# Altium integrated library STMicroelectronics Power Management DC-DC Conversion.IntLib: 186 symbols (part 1 of 4)
Pins are listed as number, name and electrical type; pins without a type are passive.

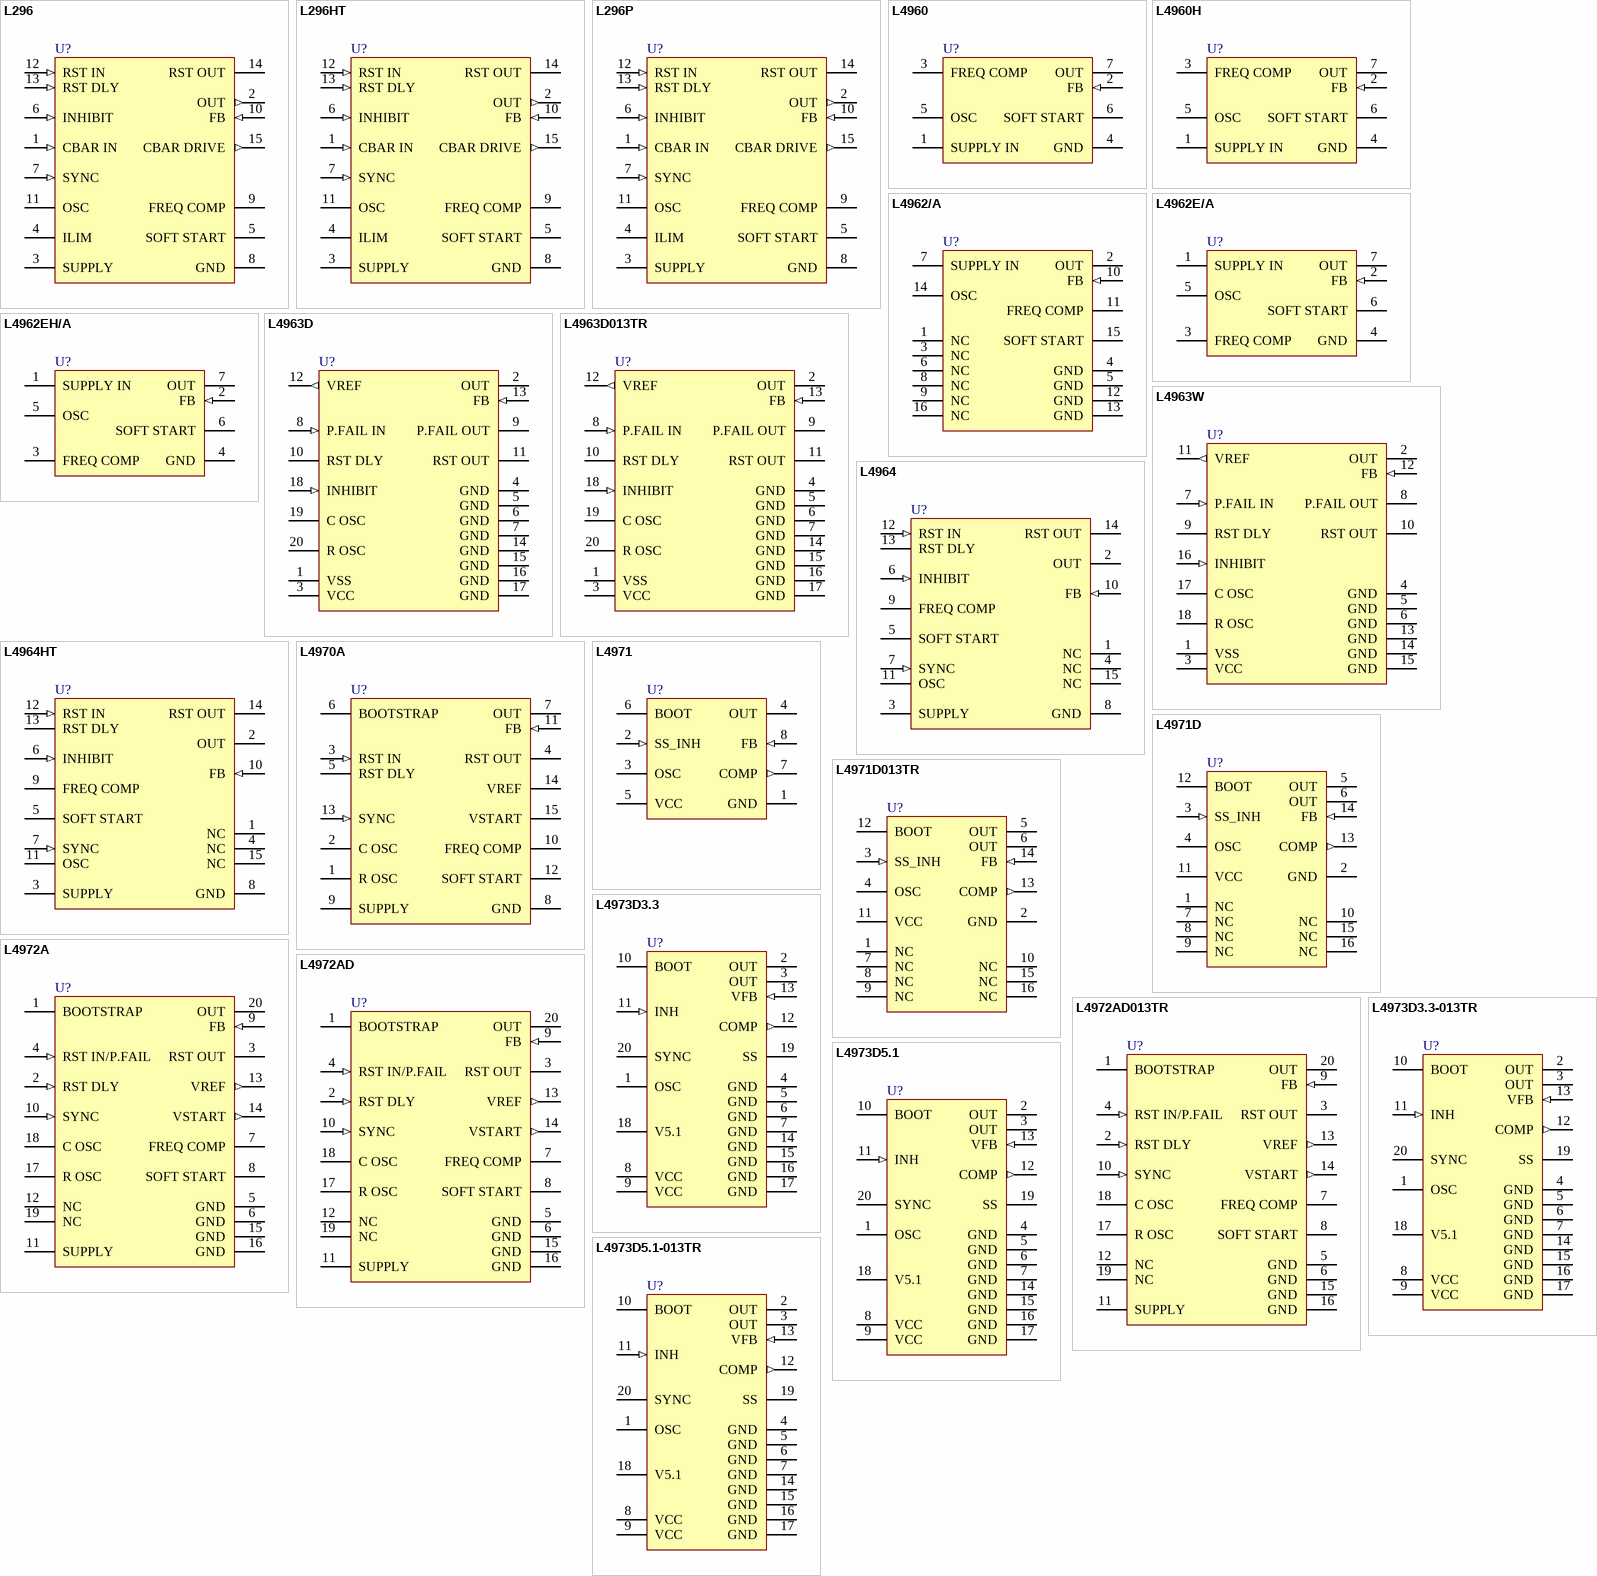
[diagram p0: symbols L296 to L4973D5.1-013TR]

## L296
designator U?
High-Current Switching Regulator, 15-Pin Multiwatt Vertical; DatasheetVersion: Jun-2000; PackageVersion: ver2.0, Feb-2011; PackageReference: Multiwatt15(Vertical); PackageDescription: TO, Thru-Hole, Vertical, Heatsink Mounted; 15 Bent Staggered Leads; Pitch 1.27 mm; ComponentLink1Description: Manufacturer URL; ComponentLink1URL: http://www.st.com; ComponentLink2Description: Datasheet; ComponentLink2URL: http://www.st.com/internet/com/TECHNICAL_RESOURCES/TECHNICAL_LITERATURE/DATASHEET/CD00000062.pdf; ComponentLink3Description: Package Specification; ComponentLink3URL: http://www.st.com/internet/com/TECHNICAL_RESOURCES/TECHNICAL_LITERATURE/PACKAGE_INFORMATION/CD00004631.pdf
footprint Multiwatt15(Vertical) (TO, Thru-Hole, Vertical, Heatsink Mounted; 15 Bent Staggered Leads; Body 19.9x10.6x4.9mm, Pitch 1.27 mm)
pins: 1 CBAR IN (in), 2 OUT (out), 3 SUPPLY (power), 4 ILIM, 5 SOFT START, 6 INHIBIT (in), 7 SYNC (in), 8 GND (power), 9 FREQ COMP, 10 FB (in), 11 OSC, 12 RST IN (in), 13 RST DLY (in), 14 RST OUT (oc), 15 CBAR DRIVE (out)

## L296HT
designator U?
High-Current Switching Regulator, 15-Pin Multiwatt Horizontal; DatasheetVersion: Jun-2000; PackageVersion: ver3.0, Feb-2011; PackageReference: Multiwatt15(Horizontal); PackageDescription: TO, Thru-Hole, Horizontal, Heatsink Mounted; 15 Bent Staggered Leads; Pitch 1.27 mm; ComponentLink1Description: Manufacturer URL; ComponentLink1URL: http://www.st.com; ComponentLink2Description: Datasheet; ComponentLink2URL: http://www.st.com/internet/com/TECHNICAL_RESOURCES/TECHNICAL_LITERATURE/DATASHEET/CD00000062.pdf; ComponentLink3Description: Package Specification; ComponentLink3URL: http://www.st.com/internet/com/TECHNICAL_RESOURCES/TECHNICAL_LITERATURE/PACKAGE_INFORMATION/CD00004629.pdf
footprint Multiwatt15(Horizontal) (TO, Thru-Hole, Horizontal, Heatsink Mounted; 15 Bent Staggered Lead; Body 19.9x10.6x4.9mm, Pitch 1.27 mm)
pins: 1 CBAR IN (in), 2 OUT (out), 3 SUPPLY (power), 4 ILIM, 5 SOFT START, 6 INHIBIT (in), 7 SYNC (in), 8 GND (power), 9 FREQ COMP, 10 FB (in), 11 OSC, 12 RST IN (in), 13 RST DLY (in), 14 RST OUT (oc), 15 CBAR DRIVE (out)

## L296P
designator U?
High-Current Switching Regulator, 15-Pin Multiwatt Vertical; DatasheetVersion: Jun-2000; PackageVersion: ver2.0, Feb-2011; PackageReference: Multiwatt15(Vertical); PackageDescription: TO, Thru-Hole, Vertical, Heatsink Mounted; 15 Bent Staggered Leads; Pitch 1.27 mm; ComponentLink1Description: Manufacturer URL; ComponentLink1URL: http://www.st.com; ComponentLink2Description: Datasheet; ComponentLink2URL: http://www.st.com/internet/com/TECHNICAL_RESOURCES/TECHNICAL_LITERATURE/DATASHEET/CD00000062.pdf; ComponentLink3Description: Package Specification; ComponentLink3URL: http://www.st.com/internet/com/TECHNICAL_RESOURCES/TECHNICAL_LITERATURE/PACKAGE_INFORMATION/CD00004631.pdf
footprint Multiwatt15(Vertical) (TO, Thru-Hole, Vertical, Heatsink Mounted; 15 Bent Staggered Leads; Body 19.9x10.6x4.9mm, Pitch 1.27 mm)
pins: 1 CBAR IN (in), 2 OUT (out), 3 SUPPLY (power), 4 ILIM, 5 SOFT START, 6 INHIBIT (in), 7 SYNC (in), 8 GND (power), 9 FREQ COMP, 10 FB (in), 11 OSC, 12 RST IN (in), 13 RST DLY (in), 14 RST OUT (oc), 15 CBAR DRIVE (out)

## L4960
designator U?
2.5A Power Switching Regulator, 7-Pin Heptawatt Vertical; DatasheetVersion: Jun-2000; PackageVersion: ver3.0, Feb-2011; PackageReference: HeptawattV; PackageDescription: TO, Thru-Hole, Vertical, Heatsink Mounted; 7 Bent Staggered Leads; Pitch 1.27 mm; ComponentLink1Description: Manufacturer URL; ComponentLink1URL: http://www.st.com; ComponentLink2Description: Datasheet; ComponentLink2URL: http://www.st.com/internet/com/TECHNICAL_RESOURCES/TECHNICAL_LITERATURE/DATASHEET/CD00000075.pdf; ComponentLink3Description: Package Specification; ComponentLink3URL: http://www.st.com/internet/com/TECHNICAL_RESOURCES/TECHNICAL_LITERATURE/PACKAGE_INFORMATION/CD00004625.pdf
footprint HeptawattV (TO, Thru-Hole, Vertical, Heatsink Mounted; 7 Bent Staggered Leads; Body 10.2x9.2x4.6mm, Pitch 1.27 mm)
pins: 1 SUPPLY IN (power), 2 FB (in), 3 FREQ COMP, 4 GND (power), 5 OSC, 6 SOFT START, 7 OUT (power)

## L4960H
designator U?
2.5A Power Switching Regulator, 7-Pin Heptawatt Horizontal; DatasheetVersion: Jun-2000; PackageVersion: 2000; PackageReference: HeptawattH; PackageDescription: TO, Thru-Hole, Horizontal, Heatsink Mounted; 7 Bent Staggered Leads; Pitch 1.27 mm; ComponentLink1Description: Manufacturer URL; ComponentLink1URL: http://www.st.com; ComponentLink2Description: Datasheet; ComponentLink2URL: http://www.st.com/internet/com/TECHNICAL_RESOURCES/TECHNICAL_LITERATURE/DATASHEET/CD00000075.pdf
footprint HeptawattH (TO, Thru-Hole, Horizontal, Heatsink Mounted; 7 Bent Staggered Lead; Body 10.2x9.2x4.6mm, Pitch 1.27 mm)
pins: 1 SUPPLY IN (power), 2 FB (in), 3 FREQ COMP, 4 GND (power), 5 OSC, 6 SOFT START, 7 OUT (power)

## L4962/A
designator U?
1.5A Power Switching Regulator, 16-Pin powerdip; DatasheetVersion: Jun-2000; PackageVersion: 2009; PackageReference: Powerdip16; PackageDescription: DIP, 16-Pin, Row Spacing 7.62 mm, Pitch 2.54 mm; ComponentLink1Description: Manufacturer URL; ComponentLink1URL: http://www.st.com; ComponentLink2Description: Datasheet; ComponentLink2URL: http://www.st.com/internet/com/TECHNICAL_RESOURCES/TECHNICAL_LITERATURE/DATASHEET/CD00000076.pdf
footprint Powerdip16 (DIP, 16-Leads, Row Spacing 7.62mm, Pitch 2.54mm, Body 19.6x6.7mm)
pins: 1 NC, 2 OUT (power), 3 NC, 4 GND (power), 5 GND (power), 6 NC, 7 SUPPLY IN (power), 8 NC, 9 NC, 10 FB (in), 11 FREQ COMP, 12 GND (power), 13 GND (power), 14 OSC, 15 SOFT START, 16 NC

## L4962E/A
designator U?
1.5A Power Switching Regulator, 7-Pin Heptawatt Vertical; DatasheetVersion: Jun-2000; PackageVersion: ver3.0, Feb-2011; PackageReference: HeptawattV; PackageDescription: TO, Thru-Hole, Vertical, Heatsink Mounted; 7 Bent Staggered Leads; Pitch 1.27 mm; ComponentLink1Description: Manufacturer URL; ComponentLink1URL: http://www.st.com; ComponentLink2Description: Datasheet; ComponentLink2URL: http://www.st.com/internet/com/TECHNICAL_RESOURCES/TECHNICAL_LITERATURE/DATASHEET/CD00000076.pdf; ComponentLink3Description: Package Specification; ComponentLink3URL: http://www.st.com/internet/com/TECHNICAL_RESOURCES/TECHNICAL_LITERATURE/PACKAGE_INFORMATION/CD00004625.pdf
footprint HeptawattV (TO, Thru-Hole, Vertical, Heatsink Mounted; 7 Bent Staggered Leads; Body 10.2x9.2x4.6mm, Pitch 1.27 mm)
pins: 1 SUPPLY IN (power), 2 FB (in), 3 FREQ COMP, 4 GND (power), 5 OSC, 6 SOFT START, 7 OUT (power)

## L4962EH/A
designator U?
1.5A Power Switching Regulator, 7-Pin Heptawatt Horizontal; DatasheetVersion: Jun-2000; PackageVersion: 2000; PackageReference: HeptawattH; PackageDescription: TO, Thru-Hole, Horizontal, Heatsink Mounted; 7 Bent Staggered Leads; Pitch 1.27 mm; ComponentLink1Description: Manufacturer URL; ComponentLink1URL: http://www.st.com; ComponentLink2Description: Datasheet; ComponentLink2URL: http://www.st.com/internet/com/TECHNICAL_RESOURCES/TECHNICAL_LITERATURE/DATASHEET/CD00000076.pdf
footprint HeptawattH (TO, Thru-Hole, Horizontal, Heatsink Mounted; 7 Bent Staggered Lead; Body 10.2x9.2x4.6mm, Pitch 1.27 mm)
pins: 1 SUPPLY IN (power), 2 FB (in), 3 FREQ COMP, 4 GND (power), 5 OSC, 6 SOFT START, 7 OUT (power)

## L4963D
designator U?
1.5A Switching Regulator, 20-Pin SO; DatasheetVersion: Jun-2000; PackageVersion: 2003; PackageReference: SO20; PackageDescription: 20-Pin Plastic Small Outline Integrated Circuit 1.27 mm Pitch; Code_JEDEC: MS-013-AC; Code_IPC: SOIC127P1030-20; ComponentLink1Description: Manufacturer URL; ComponentLink1URL: http://www.st.com; ComponentLink2Description: Datasheet; ComponentLink2URL: http://www.st.com/internet/com/TECHNICAL_RESOURCES/TECHNICAL_LITERATURE/DATASHEET/CD00000077.pdf
footprint SO20_N (SOIC, 20-Leads, Body 12.8x7.5mm, Pitch 1.27mm, IPC Medium Density)
footprint SO20_L (SOIC, 20-Leads, Body 12.8x7.5mm, Pitch 1.27mm, IPC High Density)
footprint SO20_M (SOIC, 20-Leads, Body 12.8x7.5mm, Pitch 1.27mm, IPC Low Density)
pins: 1 VSS (power), 2 OUT (power), 3 VCC (power), 4 GND (power), 5 GND (power), 6 GND (power), 7 GND (power), 8 P.FAIL IN (in), 9 P.FAIL OUT (oc), 10 RST DLY, 11 RST OUT (oc), 12 VREF (out), 13 FB (in), 14 GND (power), 15 GND (power), 16 GND (power), 17 GND (power), 18 INHIBIT (in), 19 C OSC, 20 R OSC

## L4963D013TR
designator U?
1.5A Switching Regulator, 20-Pin SO, Tape and Reel; DatasheetVersion: Jun-2000; PackageVersion: 2003; PackageReference: SO20; PackageDescription: 20-Pin Plastic Small Outline Integrated Circuit 1.27 mm Pitch; Code_JEDEC: MS-013-AC; Code_IPC: SOIC127P1030-20; ComponentLink1Description: Manufacturer URL; ComponentLink1URL: http://www.st.com; ComponentLink2Description: Datasheet; ComponentLink2URL: http://www.st.com/internet/com/TECHNICAL_RESOURCES/TECHNICAL_LITERATURE/DATASHEET/CD00000077.pdf
footprint SO20_N (SOIC, 20-Leads, Body 12.8x7.5mm, Pitch 1.27mm, IPC Medium Density)
footprint SO20_L (SOIC, 20-Leads, Body 12.8x7.5mm, Pitch 1.27mm, IPC High Density)
footprint SO20_M (SOIC, 20-Leads, Body 12.8x7.5mm, Pitch 1.27mm, IPC Low Density)
pins: 1 VSS (power), 2 OUT (power), 3 VCC (power), 4 GND (power), 5 GND (power), 6 GND (power), 7 GND (power), 8 P.FAIL IN (in), 9 P.FAIL OUT (oc), 10 RST DLY, 11 RST OUT (oc), 12 VREF (out), 13 FB (in), 14 GND (power), 15 GND (power), 16 GND (power), 17 GND (power), 18 INHIBIT (in), 19 C OSC, 20 R OSC

## L4963W
designator U?
1.5A Switching Regulator, 18-Pin Power DIP; DatasheetVersion: Jun-2000; PackageVersion: 2003; PackageReference: Powerdip18; PackageDescription: DIP, 18-Pin, Row Spacing 7.62 mm, Pitch 2.54 mm; ComponentLink1Description: Manufacturer URL; ComponentLink1URL: http://www.st.com; ComponentLink2Description: Datasheet; ComponentLink2URL: http://www.st.com/internet/com/TECHNICAL_RESOURCES/TECHNICAL_LITERATURE/DATASHEET/CD00000077.pdf
footprint Powerdip18 (DIP, 18-Leads, Row Spacing 7.62mm, Pitch 2.54mm, Body 24.5x6.7mm)
pins: 1 VSS (power), 2 OUT (power), 3 VCC (power), 4 GND (power), 5 GND (power), 6 GND (power), 7 P.FAIL IN (in), 8 P.FAIL OUT (oc), 9 RST DLY, 10 RST OUT (oc), 11 VREF (out), 12 FB (in), 13 GND (power), 14 GND (power), 15 GND (power), 16 INHIBIT (in), 17 C OSC, 18 R OSC

## L4964
designator U?
High-Current Switching Regulator, 15-Pin Multiwatt Vertical; DatasheetVersion: Jul-2003; PackageVersion: ver2.0, Feb-2011; PackageReference: Multiwatt15(Vertical); PackageDescription: TO, Thru-Hole, Vertical, Heatsink Mounted; 15 Bent Staggered Leads; Pitch 1.27 mm; ComponentLink1Description: Manufacturer URL; ComponentLink1URL: http://www.st.com; ComponentLink2Description: Datasheet; ComponentLink2URL: http://www.st.com/internet/com/TECHNICAL_RESOURCES/TECHNICAL_LITERATURE/DATASHEET/CD00000078.pdf; ComponentLink3Description: Package Specification; ComponentLink3URL: http://www.st.com/internet/com/TECHNICAL_RESOURCES/TECHNICAL_LITERATURE/PACKAGE_INFORMATION/CD00004631.pdf
footprint Multiwatt15(Vertical) (TO, Thru-Hole, Vertical, Heatsink Mounted; 15 Bent Staggered Leads; Body 19.9x10.6x4.9mm, Pitch 1.27 mm)
pins: 1 NC, 2 OUT (power), 3 SUPPLY (power), 4 NC, 5 SOFT START, 6 INHIBIT (in), 7 SYNC (in), 8 GND (power), 9 FREQ COMP, 10 FB (in), 11 OSC, 12 RST IN (in), 13 RST DLY, 14 RST OUT (oc), 15 NC

## L4964HT
designator U?
High-Current Switching Regulator, 15-Pin Multiwatt Horizontal (Short leads); DatasheetVersion: Jul-2003; PackageVersion: ver3.0, Feb-2011; PackageReference: Multiwatt15H(Short leads); PackageDescription: TO, Thru-Hole, Horizontal, Heatsink Mounted; 15 Bent Staggered Leads; Pitch 1.27 mm; ComponentLink1Description: Manufacturer URL; ComponentLink1URL: http://www.st.com; ComponentLink2Description: Datasheet; ComponentLink2URL: http://www.st.com/internet/com/TECHNICAL_RESOURCES/TECHNICAL_LITERATURE/DATASHEET/CD00000078.pdf; ComponentLink3Description: Package Specification; ComponentLink3URL: http://www.st.com/internet/com/TECHNICAL_RESOURCES/TECHNICAL_LITERATURE/PACKAGE_INFORMATION/CD00004656.pdf
footprint Multiwatt15H(Short leads) (TO, Thru-Hole, Horizontal, Heatsink Mounted; 15 Bent Staggered Lead; Body 19.9x10.6x4.9mm, Pitch 1.27 mm)
pins: 1 NC, 2 OUT (power), 3 SUPPLY (power), 4 NC, 5 SOFT START, 6 INHIBIT (in), 7 SYNC (in), 8 GND (power), 9 FREQ COMP, 10 FB (in), 11 OSC, 12 RST IN (in), 13 RST DLY, 14 RST OUT (oc), 15 NC

## L4970A
designator U?
10A Switching Regulator, 15-Pin Multiwatt Vertical; DatasheetVersion: Jun-2000; PackageVersion: ver2.0, Feb-2011; PackageReference: Multiwatt15(Vertical); PackageDescription: TO, Thru-Hole, Vertical, Heatsink Mounted; 15 Bent Staggered Leads; Pitch 1.27 mm; ComponentLink1Description: Manufacturer URL; ComponentLink1URL: http://www.st.com; ComponentLink2Description: Datasheet; ComponentLink2URL: http://www.st.com/internet/com/TECHNICAL_RESOURCES/TECHNICAL_LITERATURE/DATASHEET/CD00000080.pdf; ComponentLink3Description: Package Specification; ComponentLink3URL: http://www.st.com/internet/com/TECHNICAL_RESOURCES/TECHNICAL_LITERATURE/PACKAGE_INFORMATION/CD00004631.pdf
footprint Multiwatt15(Vertical) (TO, Thru-Hole, Vertical, Heatsink Mounted; 15 Bent Staggered Leads; Body 19.9x10.6x4.9mm, Pitch 1.27 mm)
pins: 1 R OSC, 2 C OSC, 3 RST IN (in), 4 RST OUT (oc), 5 RST DLY, 6 BOOTSTRAP, 7 OUT (power), 8 GND (power), 9 SUPPLY (power), 10 FREQ COMP, 11 FB (in), 12 SOFT START, 13 SYNC (in), 14 VREF (power), 15 VSTART (power)

## L4971
designator U?
1.5A, Step-down switching regulator, 8-Pin DIP; DatasheetVersion: May-2005; PackageVersion: 2007; PackageReference: DIP8; PackageDescription: DIP, 8-Pin, Skinny Dual In-line Package, 300mil Wide, Pitch 2.54 mm; Code_JEDEC: MO-001-AN; ComponentLink1Description: Manufacturer URL; ComponentLink1URL: http://www.st.com; ComponentLink2Description: Datasheet; ComponentLink2URL: http://www.st.com/internet/com/TECHNICAL_RESOURCES/TECHNICAL_LITERATURE/DATASHEET/CD00001355.pdf
footprint DIP8 (DIP, 8-Leads, Row Spacing 7.62mm, Pitch 2.54mm, Body 9.9x6.4mm)
pins: 1 GND (power), 2 SS_INH (in), 3 OSC, 4 OUT (power), 5 VCC (power), 6 BOOT, 7 COMP (out), 8 FB (in)

## L4971D
designator U?
1.5A, Step-down switching regulator, 16-Pin SO; DatasheetVersion: May-2005; PackageVersion: 2005; PackageReference: SO16(Wide); PackageDescription: 16-Pin Small Outline Integrated Circuit 1.27 mm Pitch; ComponentLink1Description: Manufacturer URL; ComponentLink1URL: http://www.st.com; ComponentLink2Description: Datasheet; ComponentLink2URL: http://www.st.com/internet/com/TECHNICAL_RESOURCES/TECHNICAL_LITERATURE/DATASHEET/CD00001355.pdf
footprint SO16(Wide)_N (SOIC, 16-Leads, Body 10.3x7.5mm, Pitch 1.27mm, IPC Medium Density)
footprint SO16(Wide)_L (SOIC, 16-Leads, Body 10.3x7.5mm, Pitch 1.27mm, IPC High Density)
footprint SO16(Wide)_M (SOIC, 16-Leads, Body 10.3x7.5mm, Pitch 1.27mm, IPC Low Density)
pins: 1 NC, 2 GND (power), 3 SS_INH (in), 4 OSC, 5 OUT (power), 6 OUT (power), 7 NC, 8 NC, 9 NC, 10 NC, 11 VCC (power), 12 BOOT, 13 COMP (out), 14 FB (in), 15 NC, 16 NC

## L4971D013TR
designator U?
1.5A, Step-down switching regulator, 16-Pin SO, Tape and Reel; DatasheetVersion: May-2005; PackageVersion: 2005; PackageReference: SO16(Wide); PackageDescription: 16-Pin Small Outline Integrated Circuit 1.27 mm Pitch; ComponentLink1Description: Manufacturer URL; ComponentLink1URL: http://www.st.com; ComponentLink2Description: Datasheet; ComponentLink2URL: http://www.st.com/internet/com/TECHNICAL_RESOURCES/TECHNICAL_LITERATURE/DATASHEET/CD00001355.pdf
footprint SO16(Wide)_N (SOIC, 16-Leads, Body 10.3x7.5mm, Pitch 1.27mm, IPC Medium Density)
footprint SO16(Wide)_L (SOIC, 16-Leads, Body 10.3x7.5mm, Pitch 1.27mm, IPC High Density)
footprint SO16(Wide)_M (SOIC, 16-Leads, Body 10.3x7.5mm, Pitch 1.27mm, IPC Low Density)
pins: 1 NC, 2 GND (power), 3 SS_INH (in), 4 OSC, 5 OUT (power), 6 OUT (power), 7 NC, 8 NC, 9 NC, 10 NC, 11 VCC (power), 12 BOOT, 13 COMP (out), 14 FB (in), 15 NC, 16 NC

## L4972A
designator U?
2A Switching Regulator, 20-Pin Power DIP; DatasheetVersion: May-2005; PackageVersion: 2003; PackageReference: Powerdip20; PackageDescription: DIP, 20-Pin, Row Spacing 7.62 mm, Pitch 2.54 mm; ComponentLink1Description: Manufacturer URL; ComponentLink1URL: http://www.st.com; ComponentLink2Description: Datasheet; ComponentLink2URL: http://www.st.com/internet/com/TECHNICAL_RESOURCES/TECHNICAL_LITERATURE/DATASHEET/CD00000081.pdf
footprint Powerdip20 (DIP, 20-Leads, Row Spacing 7.62mm, Pitch 2.54mm, Body 24.5x6.7mm)
pins: 1 BOOTSTRAP, 2 RST DLY (in), 3 RST OUT (oc), 4 RST IN/P.FAIL (in), 5 GND (power), 6 GND (power), 7 FREQ COMP, 8 SOFT START, 9 FB (in), 10 SYNC (in), 11 SUPPLY (power), 12 NC, 13 VREF (out), 14 VSTART (out), 15 GND (power), 16 GND (power), 17 R OSC, 18 C OSC, 19 NC, 20 OUT (power)

## L4972AD
designator U?
2A Switching Regulator, 20-Pin SO; DatasheetVersion: May-2005; PackageVersion: 2003; PackageReference: SO20; PackageDescription: 20-Pin Plastic Small Outline Integrated Circuit 1.27 mm Pitch; Code_JEDEC: MS-013-AC; Code_IPC: SOIC127P1030-20; ComponentLink1Description: Manufacturer URL; ComponentLink1URL: http://www.st.com; ComponentLink2Description: Datasheet; ComponentLink2URL: http://www.st.com/internet/com/TECHNICAL_RESOURCES/TECHNICAL_LITERATURE/DATASHEET/CD00000081.pdf
footprint SO20_N (SOIC, 20-Leads, Body 12.8x7.5mm, Pitch 1.27mm, IPC Medium Density)
footprint SO20_L (SOIC, 20-Leads, Body 12.8x7.5mm, Pitch 1.27mm, IPC High Density)
footprint SO20_M (SOIC, 20-Leads, Body 12.8x7.5mm, Pitch 1.27mm, IPC Low Density)
pins: 1 BOOTSTRAP, 2 RST DLY (in), 3 RST OUT (oc), 4 RST IN/P.FAIL (in), 5 GND (power), 6 GND (power), 7 FREQ COMP, 8 SOFT START, 9 FB (in), 10 SYNC (in), 11 SUPPLY (power), 12 NC, 13 VREF (out), 14 VSTART (out), 15 GND (power), 16 GND (power), 17 R OSC, 18 C OSC, 19 NC, 20 OUT (power)

## L4972AD013TR
designator U?
2A Switching Regulator, 20-Pin SO, Tape and Reel; DatasheetVersion: May-2005; PackageVersion: 2003; PackageReference: SO20; PackageDescription: 20-Pin Plastic Small Outline Integrated Circuit 1.27 mm Pitch; Code_JEDEC: MS-013-AC; Code_IPC: SOIC127P1030-20; ComponentLink1Description: Manufacturer URL; ComponentLink1URL: http://www.st.com; ComponentLink2Description: Datasheet; ComponentLink2URL: http://www.st.com/internet/com/TECHNICAL_RESOURCES/TECHNICAL_LITERATURE/DATASHEET/CD00000081.pdf
footprint SO20_N (SOIC, 20-Leads, Body 12.8x7.5mm, Pitch 1.27mm, IPC Medium Density)
footprint SO20_L (SOIC, 20-Leads, Body 12.8x7.5mm, Pitch 1.27mm, IPC High Density)
footprint SO20_M (SOIC, 20-Leads, Body 12.8x7.5mm, Pitch 1.27mm, IPC Low Density)
pins: 1 BOOTSTRAP, 2 RST DLY (in), 3 RST OUT (oc), 4 RST IN/P.FAIL (in), 5 GND (power), 6 GND (power), 7 FREQ COMP, 8 SOFT START, 9 FB (in), 10 SYNC (in), 11 SUPPLY (power), 12 NC, 13 VREF (out), 14 VSTART (out), 15 GND (power), 16 GND (power), 17 R OSC, 18 C OSC, 19 NC, 20 OUT (power)

## L4973D3.3
designator U?
3.5A Step Down Switching Regulator, 20-Pin SO; DatasheetVersion: Feb-2009; PackageVersion: 2003; PackageReference: SO20; PackageDescription: 20-Pin Plastic Small Outline Integrated Circuit 1.27 mm Pitch; Code_JEDEC: MS-013-AC; Code_IPC: SOIC127P1030-20; ComponentLink1Description: Manufacturer URL; ComponentLink1URL: http://www.st.com; ComponentLink2Description: Datasheet; ComponentLink2URL: http://www.st.com/internet/com/TECHNICAL_RESOURCES/TECHNICAL_LITERATURE/DATASHEET/CD00000188.pdf
footprint SO20_N (SOIC, 20-Leads, Body 12.8x7.5mm, Pitch 1.27mm, IPC Medium Density)
footprint SO20_L (SOIC, 20-Leads, Body 12.8x7.5mm, Pitch 1.27mm, IPC High Density)
footprint SO20_M (SOIC, 20-Leads, Body 12.8x7.5mm, Pitch 1.27mm, IPC Low Density)
pins: 1 OSC, 2 OUT (power), 3 OUT (power), 4 GND (power), 5 GND (power), 6 GND (power), 7 GND (power), 8 VCC (power), 9 VCC (power), 10 BOOT, 11 INH (in), 12 COMP (out), 13 VFB (in), 14 GND (power), 15 GND (power), 16 GND (power), 17 GND (power), 18 V5.1 (power), 19 SS, 20 SYNC

## L4973D3.3-013TR
designator U?
3.5A Step Down Switching Regulator, 20-Pin SO, Tape and Reel; DatasheetVersion: Feb-2009; PackageVersion: 2003; PackageReference: SO20; PackageDescription: 20-Pin Plastic Small Outline Integrated Circuit 1.27 mm Pitch; Code_JEDEC: MS-013-AC; Code_IPC: SOIC127P1030-20; ComponentLink1Description: Manufacturer URL; ComponentLink1URL: http://www.st.com; ComponentLink2Description: Datasheet; ComponentLink2URL: http://www.st.com/internet/com/TECHNICAL_RESOURCES/TECHNICAL_LITERATURE/DATASHEET/CD00000188.pdf
footprint SO20_N (SOIC, 20-Leads, Body 12.8x7.5mm, Pitch 1.27mm, IPC Medium Density)
footprint SO20_L (SOIC, 20-Leads, Body 12.8x7.5mm, Pitch 1.27mm, IPC High Density)
footprint SO20_M (SOIC, 20-Leads, Body 12.8x7.5mm, Pitch 1.27mm, IPC Low Density)
pins: 1 OSC, 2 OUT (power), 3 OUT (power), 4 GND (power), 5 GND (power), 6 GND (power), 7 GND (power), 8 VCC (power), 9 VCC (power), 10 BOOT, 11 INH (in), 12 COMP (out), 13 VFB (in), 14 GND (power), 15 GND (power), 16 GND (power), 17 GND (power), 18 V5.1 (power), 19 SS, 20 SYNC

## L4973D5.1
designator U?
3.5A Step Down Switching Regulator, 20-Pin SO; DatasheetVersion: Feb-2009; PackageVersion: 2003; PackageReference: SO20; PackageDescription: 20-Pin Plastic Small Outline Integrated Circuit 1.27 mm Pitch; Code_JEDEC: MS-013-AC; Code_IPC: SOIC127P1030-20; ComponentLink1Description: Manufacturer URL; ComponentLink1URL: http://www.st.com; ComponentLink2Description: Datasheet; ComponentLink2URL: http://www.st.com/internet/com/TECHNICAL_RESOURCES/TECHNICAL_LITERATURE/DATASHEET/CD00000188.pdf
footprint SO20_N (SOIC, 20-Leads, Body 12.8x7.5mm, Pitch 1.27mm, IPC Medium Density)
footprint SO20_L (SOIC, 20-Leads, Body 12.8x7.5mm, Pitch 1.27mm, IPC High Density)
footprint SO20_M (SOIC, 20-Leads, Body 12.8x7.5mm, Pitch 1.27mm, IPC Low Density)
pins: 1 OSC, 2 OUT (power), 3 OUT (power), 4 GND (power), 5 GND (power), 6 GND (power), 7 GND (power), 8 VCC (power), 9 VCC (power), 10 BOOT, 11 INH (in), 12 COMP (out), 13 VFB (in), 14 GND (power), 15 GND (power), 16 GND (power), 17 GND (power), 18 V5.1 (power), 19 SS, 20 SYNC

## L4973D5.1-013TR
designator U?
3.5A Step Down Switching Regulator, 20-Pin SO, Tape and Reel; DatasheetVersion: Feb-2009; PackageVersion: 2003; PackageReference: SO20; PackageDescription: 20-Pin Plastic Small Outline Integrated Circuit 1.27 mm Pitch; Code_JEDEC: MS-013-AC; Code_IPC: SOIC127P1030-20; ComponentLink1Description: Manufacturer URL; ComponentLink1URL: http://www.st.com; ComponentLink2Description: Datasheet; ComponentLink2URL: http://www.st.com/internet/com/TECHNICAL_RESOURCES/TECHNICAL_LITERATURE/DATASHEET/CD00000188.pdf
footprint SO20_N (SOIC, 20-Leads, Body 12.8x7.5mm, Pitch 1.27mm, IPC Medium Density)
footprint SO20_L (SOIC, 20-Leads, Body 12.8x7.5mm, Pitch 1.27mm, IPC High Density)
footprint SO20_M (SOIC, 20-Leads, Body 12.8x7.5mm, Pitch 1.27mm, IPC Low Density)
pins: 1 OSC, 2 OUT (power), 3 OUT (power), 4 GND (power), 5 GND (power), 6 GND (power), 7 GND (power), 8 VCC (power), 9 VCC (power), 10 BOOT, 11 INH (in), 12 COMP (out), 13 VFB (in), 14 GND (power), 15 GND (power), 16 GND (power), 17 GND (power), 18 V5.1 (power), 19 SS, 20 SYNC

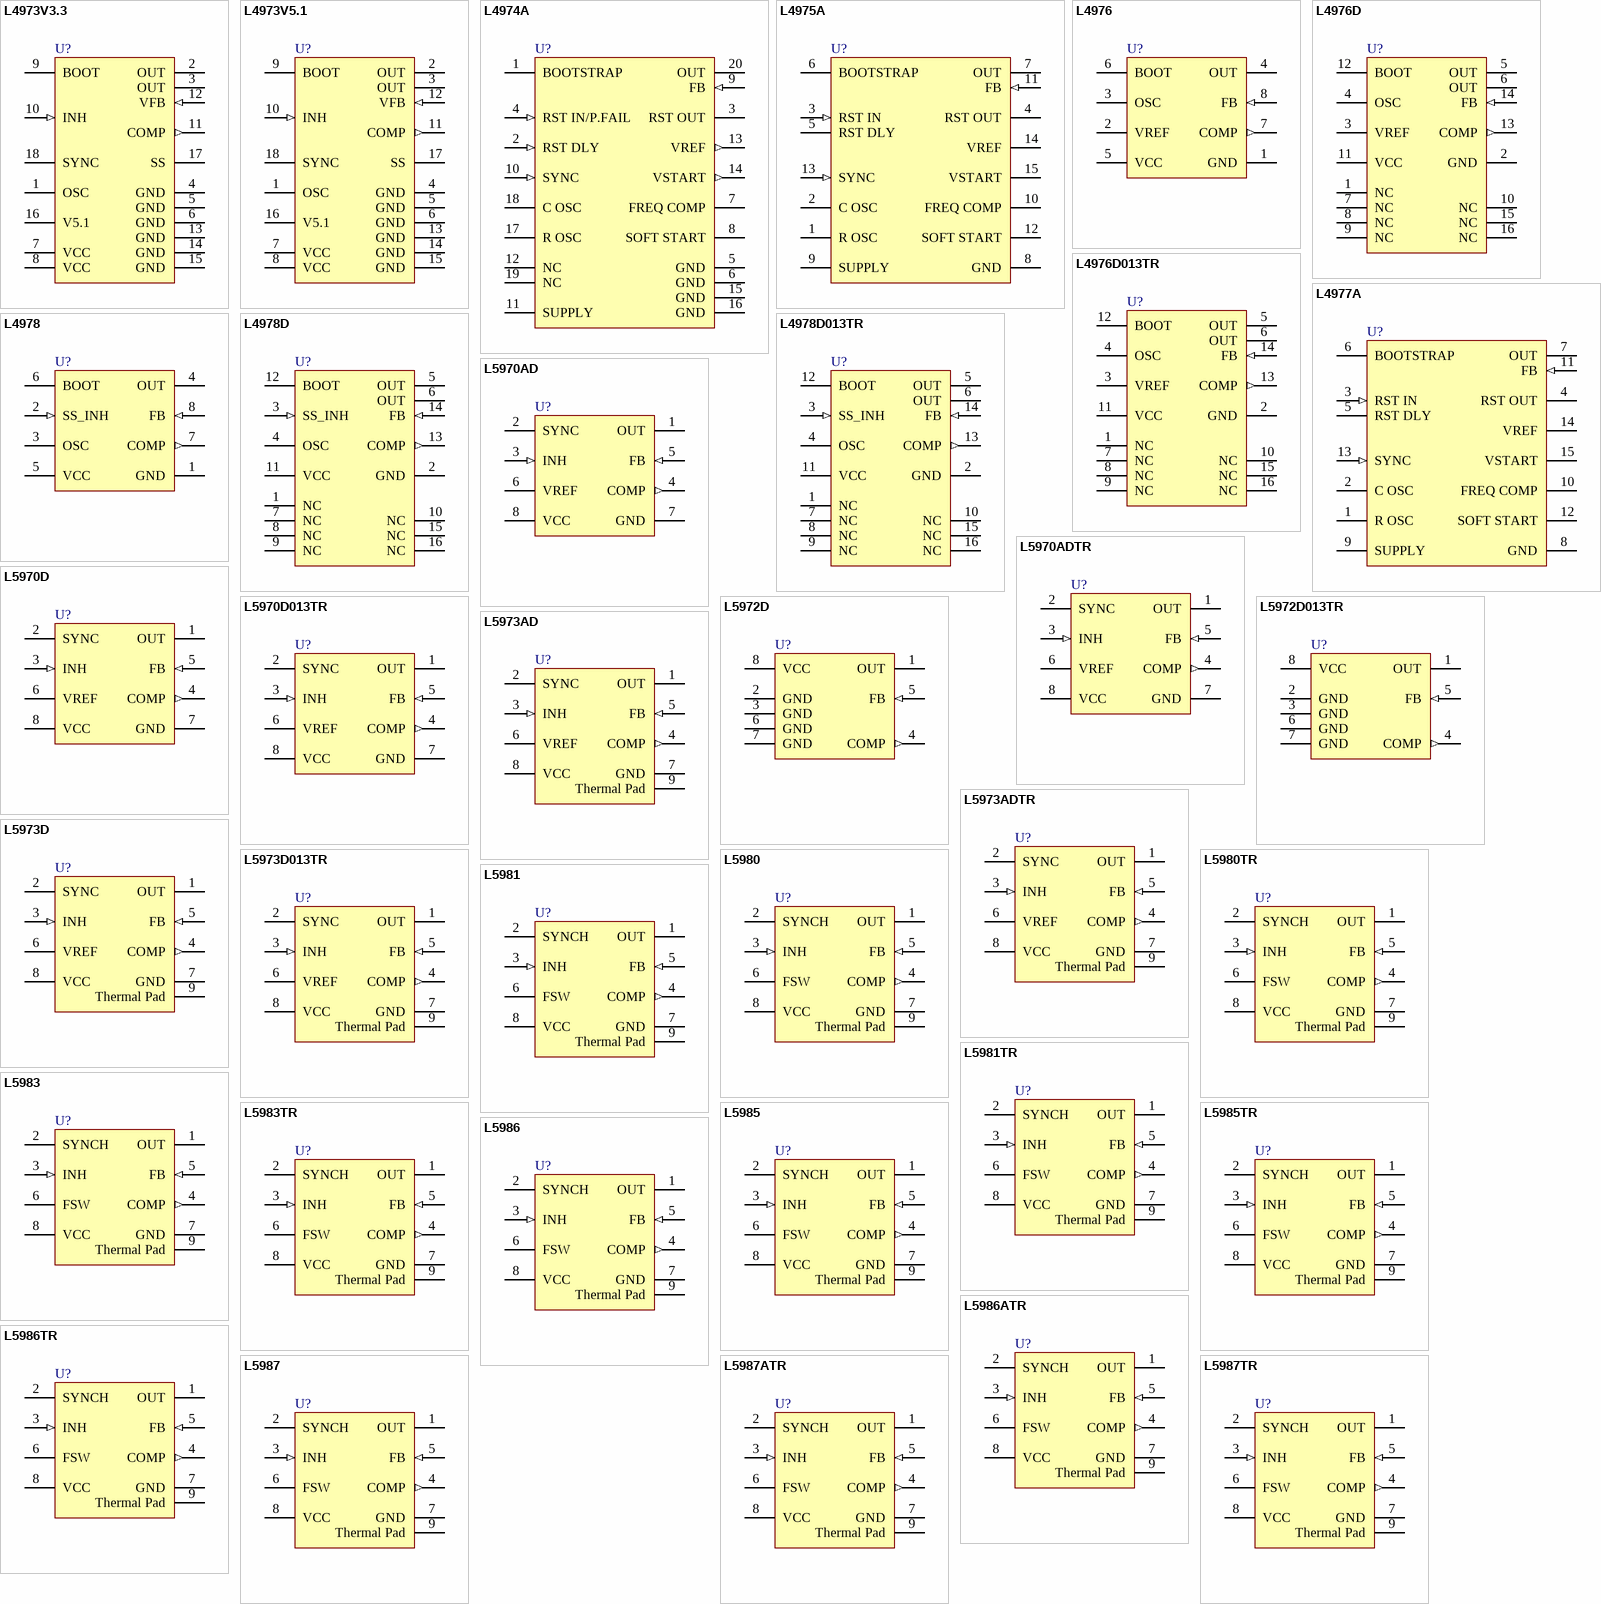
[diagram p1: symbols L4973V3.3 to L5987TR]

## L4973V3.3
designator U?
3.5A Step Down Switching Regulator, 18-Pin DIP; DatasheetVersion: Feb-2009; PackageVersion: 2003; PackageReference: Powerdip18; PackageDescription: DIP, 18-Pin, Row Spacing 7.62 mm, Pitch 2.54 mm; ComponentLink1Description: Manufacturer URL; ComponentLink1URL: http://www.st.com; ComponentLink2Description: Datasheet; ComponentLink2URL: http://www.st.com/internet/com/TECHNICAL_RESOURCES/TECHNICAL_LITERATURE/DATASHEET/CD00000188.pdf
footprint Powerdip18 (DIP, 18-Leads, Row Spacing 7.62mm, Pitch 2.54mm, Body 24.5x6.7mm)
pins: 1 OSC, 2 OUT (power), 3 OUT (power), 4 GND (power), 5 GND (power), 6 GND (power), 7 VCC (power), 8 VCC (power), 9 BOOT, 10 INH (in), 11 COMP (out), 12 VFB (in), 13 GND (power), 14 GND (power), 15 GND (power), 16 V5.1 (power), 17 SS, 18 SYNC

## L4973V5.1
designator U?
3.5A Step Down Switching Regulator, 18-Pin DIP; DatasheetVersion: Feb-2009; PackageVersion: 2003; PackageReference: Powerdip18; PackageDescription: DIP, 18-Pin, Row Spacing 7.62 mm, Pitch 2.54 mm; ComponentLink1Description: Manufacturer URL; ComponentLink1URL: http://www.st.com; ComponentLink2Description: Datasheet; ComponentLink2URL: http://www.st.com/internet/com/TECHNICAL_RESOURCES/TECHNICAL_LITERATURE/DATASHEET/CD00000188.pdf
footprint Powerdip18 (DIP, 18-Leads, Row Spacing 7.62mm, Pitch 2.54mm, Body 24.5x6.7mm)
pins: 1 OSC, 2 OUT (power), 3 OUT (power), 4 GND (power), 5 GND (power), 6 GND (power), 7 VCC (power), 8 VCC (power), 9 BOOT, 10 INH (in), 11 COMP (out), 12 VFB (in), 13 GND (power), 14 GND (power), 15 GND (power), 16 V5.1 (power), 17 SS, 18 SYNC

## L4974A
designator U?
3.5A Switching Regulator, 20-Pin Power DIP; DatasheetVersion: Jun-2000; PackageVersion: 2003; PackageReference: Powerdip20; PackageDescription: DIP, 20-Pin, Row Spacing 7.62 mm, Pitch 2.54 mm; ComponentLink1Description: Manufacturer URL; ComponentLink1URL: http://www.st.com; ComponentLink2Description: Datasheet; ComponentLink2URL: http://www.st.com/internet/com/TECHNICAL_RESOURCES/TECHNICAL_LITERATURE/DATASHEET/CD00000082.pdf
footprint Powerdip20 (DIP, 20-Leads, Row Spacing 7.62mm, Pitch 2.54mm, Body 24.5x6.7mm)
pins: 1 BOOTSTRAP, 2 RST DLY (in), 3 RST OUT (oc), 4 RST IN/P.FAIL (in), 5 GND (power), 6 GND (power), 7 FREQ COMP, 8 SOFT START, 9 FB (in), 10 SYNC (in), 11 SUPPLY (power), 12 NC, 13 VREF (out), 14 VSTART (out), 15 GND (power), 16 GND (power), 17 R OSC, 18 C OSC, 19 NC, 20 OUT (power)

## L4975A
designator U?
5A Switching Regulator, 15-Pin Multiwatt Vertical; DatasheetVersion: Jun-2000; PackageVersion: ver2.0, Feb-2011; PackageReference: Multiwatt15(Vertical); PackageDescription: TO, Thru-Hole, Vertical, Heatsink Mounted; 15 Bent Staggered Leads; Pitch 1.27 mm; ComponentLink1Description: Manufacturer URL; ComponentLink1URL: http://www.st.com; ComponentLink2Description: Datasheet; ComponentLink2URL: http://www.st.com/internet/com/TECHNICAL_RESOURCES/TECHNICAL_LITERATURE/DATASHEET/CD00000083.pdf; ComponentLink3Description: Package Specification; ComponentLink3URL: http://www.st.com/internet/com/TECHNICAL_RESOURCES/TECHNICAL_LITERATURE/PACKAGE_INFORMATION/CD00004631.pdf
footprint Multiwatt15(Vertical) (TO, Thru-Hole, Vertical, Heatsink Mounted; 15 Bent Staggered Leads; Body 19.9x10.6x4.9mm, Pitch 1.27 mm)
pins: 1 R OSC, 2 C OSC, 3 RST IN (in), 4 RST OUT (oc), 5 RST DLY, 6 BOOTSTRAP, 7 OUT (power), 8 GND (power), 9 SUPPLY (power), 10 FREQ COMP, 11 FB (in), 12 SOFT START, 13 SYNC (in), 14 VREF (power), 15 VSTART (power)

## L4976
designator U?
1A, Step-down switching regulator, 0.5 to 50V, 8-Pin DIP; DatasheetVersion: Apr-2007; PackageVersion: 2007; PackageReference: DIP8; PackageDescription: DIP, 8-Pin, Skinny Dual In-line Package, 300mil Wide, Pitch 2.54 mm; Code_JEDEC: MO-001-AN; ComponentLink1Description: Manufacturer URL; ComponentLink1URL: http://www.st.com; ComponentLink2Description: Datasheet; ComponentLink2URL: http://www.st.com/internet/com/TECHNICAL_RESOURCES/TECHNICAL_LITERATURE/DATASHEET/CD00001502.pdf
footprint DIP8 (DIP, 8-Leads, Row Spacing 7.62mm, Pitch 2.54mm, Body 9.9x6.4mm)
pins: 1 GND (power), 2 VREF (power), 3 OSC, 4 OUT (power), 5 VCC (power), 6 BOOT, 7 COMP (out), 8 FB (in)

## L4976D
designator U?
1A, Step-down switching regulator, 0.5 to 50V, 16-Pin SO; DatasheetVersion: Apr-2007; PackageVersion: 2005; PackageReference: SO16(Wide); PackageDescription: 16-Pin Small Outline Integrated Circuit 1.27 mm Pitch; ComponentLink1Description: Manufacturer URL; ComponentLink1URL: http://www.st.com; ComponentLink2Description: Datasheet; ComponentLink2URL: http://www.st.com/internet/com/TECHNICAL_RESOURCES/TECHNICAL_LITERATURE/DATASHEET/CD00001502.pdf
footprint SO16(Wide)_N (SOIC, 16-Leads, Body 10.3x7.5mm, Pitch 1.27mm, IPC Medium Density)
footprint SO16(Wide)_L (SOIC, 16-Leads, Body 10.3x7.5mm, Pitch 1.27mm, IPC High Density)
footprint SO16(Wide)_M (SOIC, 16-Leads, Body 10.3x7.5mm, Pitch 1.27mm, IPC Low Density)
pins: 1 NC, 2 GND (power), 3 VREF (power), 4 OSC, 5 OUT (power), 6 OUT (power), 7 NC, 8 NC, 9 NC, 10 NC, 11 VCC (power), 12 BOOT, 13 COMP (out), 14 FB (in), 15 NC, 16 NC

## L4976D013TR
designator U?
1A, Step-down switching regulator, 0.5 to 50V, 16-Pin SO, Tape and Reel; DatasheetVersion: Apr-2007; PackageVersion: 2005; PackageReference: SO16(Wide); PackageDescription: 16-Pin Small Outline Integrated Circuit 1.27 mm Pitch; ComponentLink1Description: Manufacturer URL; ComponentLink1URL: http://www.st.com; ComponentLink2Description: Datasheet; ComponentLink2URL: http://www.st.com/internet/com/TECHNICAL_RESOURCES/TECHNICAL_LITERATURE/DATASHEET/CD00001502.pdf
footprint SO16(Wide)_N (SOIC, 16-Leads, Body 10.3x7.5mm, Pitch 1.27mm, IPC Medium Density)
footprint SO16(Wide)_L (SOIC, 16-Leads, Body 10.3x7.5mm, Pitch 1.27mm, IPC High Density)
footprint SO16(Wide)_M (SOIC, 16-Leads, Body 10.3x7.5mm, Pitch 1.27mm, IPC Low Density)
pins: 1 NC, 2 GND (power), 3 VREF (power), 4 OSC, 5 OUT (power), 6 OUT (power), 7 NC, 8 NC, 9 NC, 10 NC, 11 VCC (power), 12 BOOT, 13 COMP (out), 14 FB (in), 15 NC, 16 NC

## L4977A
designator U?
7A Switching Regulator, 15-Pin Multiwatt; DatasheetVersion: Jun-2000; PackageVersion: ver2.0, Feb-2011; PackageReference: Multiwatt15(Vertical); PackageDescription: TO, Thru-Hole, Vertical, Heatsink Mounted; 15 Bent Staggered Leads; Pitch 1.27 mm; ComponentLink1Description: Manufacturer URL; ComponentLink1URL: http://www.st.com; ComponentLink2Description: Datasheet; ComponentLink2URL: http://www.st.com/internet/com/TECHNICAL_RESOURCES/TECHNICAL_LITERATURE/DATASHEET/CD00000084.pdf; ComponentLink3Description: Package Specification; ComponentLink3URL: http://www.st.com/internet/com/TECHNICAL_RESOURCES/TECHNICAL_LITERATURE/PACKAGE_INFORMATION/CD00004631.pdf
footprint Multiwatt15(Vertical) (TO, Thru-Hole, Vertical, Heatsink Mounted; 15 Bent Staggered Leads; Body 19.9x10.6x4.9mm, Pitch 1.27 mm)
pins: 1 R OSC, 2 C OSC, 3 RST IN (in), 4 RST OUT (oc), 5 RST DLY, 6 BOOTSTRAP, 7 OUT (power), 8 GND (power), 9 SUPPLY (power), 10 FREQ COMP, 11 FB (in), 12 SOFT START, 13 SYNC (in), 14 VREF (power), 15 VSTART (power)

## L4978
designator U?
2A, Step-down switching regulator, 8-Pin DIP; DatasheetVersion: May-2005; PackageVersion: 2007; PackageReference: DIP8; PackageDescription: DIP, 8-Pin, Skinny Dual In-line Package, 300mil Wide, Pitch 2.54 mm; Code_JEDEC: MO-001-AN; ComponentLink1Description: Manufacturer URL; ComponentLink1URL: http://www.st.com; ComponentLink2Description: Datasheet; ComponentLink2URL: http://www.st.com/internet/com/TECHNICAL_RESOURCES/TECHNICAL_LITERATURE/DATASHEET/CD00001392.pdf
footprint DIP8 (DIP, 8-Leads, Row Spacing 7.62mm, Pitch 2.54mm, Body 9.9x6.4mm)
pins: 1 GND (power), 2 SS_INH (in), 3 OSC, 4 OUT (power), 5 VCC (power), 6 BOOT, 7 COMP (out), 8 FB (in)

## L4978D
designator U?
2A, Step-down switching regulator, 16-Pin SO; DatasheetVersion: May-2005; PackageVersion: 2005; PackageReference: SO16(Wide); PackageDescription: 16-Pin Small Outline Integrated Circuit 1.27 mm Pitch; ComponentLink1Description: Manufacturer URL; ComponentLink1URL: http://www.st.com; ComponentLink2Description: Datasheet; ComponentLink2URL: http://www.st.com/internet/com/TECHNICAL_RESOURCES/TECHNICAL_LITERATURE/DATASHEET/CD00001392.pdf
footprint SO16(Wide)_N (SOIC, 16-Leads, Body 10.3x7.5mm, Pitch 1.27mm, IPC Medium Density)
footprint SO16(Wide)_L (SOIC, 16-Leads, Body 10.3x7.5mm, Pitch 1.27mm, IPC High Density)
footprint SO16(Wide)_M (SOIC, 16-Leads, Body 10.3x7.5mm, Pitch 1.27mm, IPC Low Density)
pins: 1 NC, 2 GND (power), 3 SS_INH (in), 4 OSC, 5 OUT (power), 6 OUT (power), 7 NC, 8 NC, 9 NC, 10 NC, 11 VCC (power), 12 BOOT, 13 COMP (out), 14 FB (in), 15 NC, 16 NC

## L4978D013TR
designator U?
2A, Step-down switching regulator, 16-Pin SO, Tape and Reel; DatasheetVersion: May-2005; PackageVersion: 2005; PackageReference: SO16(Wide); PackageDescription: 16-Pin Small Outline Integrated Circuit 1.27 mm Pitch; ComponentLink1Description: Manufacturer URL; ComponentLink1URL: http://www.st.com; ComponentLink2Description: Datasheet; ComponentLink2URL: http://www.st.com/internet/com/TECHNICAL_RESOURCES/TECHNICAL_LITERATURE/DATASHEET/CD00001392.pdf
footprint SO16(Wide)_N (SOIC, 16-Leads, Body 10.3x7.5mm, Pitch 1.27mm, IPC Medium Density)
footprint SO16(Wide)_L (SOIC, 16-Leads, Body 10.3x7.5mm, Pitch 1.27mm, IPC High Density)
footprint SO16(Wide)_M (SOIC, 16-Leads, Body 10.3x7.5mm, Pitch 1.27mm, IPC Low Density)
pins: 1 NC, 2 GND (power), 3 SS_INH (in), 4 OSC, 5 OUT (power), 6 OUT (power), 7 NC, 8 NC, 9 NC, 10 NC, 11 VCC (power), 12 BOOT, 13 COMP (out), 14 FB (in), 15 NC, 16 NC

## L5970AD
designator U?
Up to 1 A step down switching regulator, 8-Pin SO; DatasheetVersion: Mar-2005; PackageVersion: Dec-2002; PackageReference: SO8; PackageDescription: 8-Pin Small Outline Integrated Circuit 1.27 mm Pitch; Code_JEDEC: MS-012-AA; Code_IPC: SOIC127P600-8; ComponentLink1Description: Manufacturer URL; ComponentLink1URL: http://www.st.com; ComponentLink2Description: Datasheet; ComponentLink2URL: http://www.st.com/internet/com/TECHNICAL_RESOURCES/TECHNICAL_LITERATURE/DATASHEET/CD00050942.pdf; ComponentLink3Description: Package Specification; ComponentLink3URL: http://www.st.com/internet/com/TECHNICAL_RESOURCES/TECHNICAL_LITERATURE/PACKAGE_INFORMATION/CD00004680.pdf
footprint SO8_N (SOIC, 8-Leads, Body 4.9x3.9mm, Pitch 1.27mm, IPC Medium Density)
footprint SO8_L (SOIC, 8-Leads, Body 4.9x3.9mm, Pitch 1.27mm, IPC High Density)
footprint SO8_M (SOIC, 8-Leads, Body 4.9x3.9mm, Pitch 1.27mm, IPC Low Density)
pins: 1 OUT (power), 2 SYNC, 3 INH (in), 4 COMP (out), 5 FB (in), 6 VREF (power), 7 GND (power), 8 VCC (power)

## L5970ADTR
designator U?
Up to 1 A step down switching regulator, 8-Pin SO, Tape and Reel; DatasheetVersion: Mar-2005; PackageVersion: Dec-2002; PackageReference: SO8; PackageDescription: 8-Pin Small Outline Integrated Circuit 1.27 mm Pitch; Code_JEDEC: MS-012-AA; Code_IPC: SOIC127P600-8; ComponentLink1Description: Manufacturer URL; ComponentLink1URL: http://www.st.com; ComponentLink2Description: Datasheet; ComponentLink2URL: http://www.st.com/internet/com/TECHNICAL_RESOURCES/TECHNICAL_LITERATURE/DATASHEET/CD00050942.pdf; ComponentLink3Description: Package Specification; ComponentLink3URL: http://www.st.com/internet/com/TECHNICAL_RESOURCES/TECHNICAL_LITERATURE/PACKAGE_INFORMATION/CD00004680.pdf
footprint SO8_N (SOIC, 8-Leads, Body 4.9x3.9mm, Pitch 1.27mm, IPC Medium Density)
footprint SO8_L (SOIC, 8-Leads, Body 4.9x3.9mm, Pitch 1.27mm, IPC High Density)
footprint SO8_M (SOIC, 8-Leads, Body 4.9x3.9mm, Pitch 1.27mm, IPC Low Density)
pins: 1 OUT (power), 2 SYNC, 3 INH (in), 4 COMP (out), 5 FB (in), 6 VREF (power), 7 GND (power), 8 VCC (power)

## L5970D
designator U?
1A, Step-down switching regulator, 1.2 to 35V, 8-Pin SO; DatasheetVersion: Oct-2007; PackageVersion: Dec-2002; PackageReference: SO8; PackageDescription: 8-Pin Small Outline Integrated Circuit 1.27 mm Pitch; Code_JEDEC: MS-012-AA; Code_IPC: SOIC127P600-8; ComponentLink1Description: Manufacturer URL; ComponentLink1URL: http://www.st.com; ComponentLink2Description: Datasheet; ComponentLink2URL: http://www.st.com/internet/com/TECHNICAL_RESOURCES/TECHNICAL_LITERATURE/DATASHEET/CD00002173.pdf; ComponentLink3Description: Package Specification; ComponentLink3URL: http://www.st.com/internet/com/TECHNICAL_RESOURCES/TECHNICAL_LITERATURE/PACKAGE_INFORMATION/CD00004680.pdf
footprint SO8_N (SOIC, 8-Leads, Body 4.9x3.9mm, Pitch 1.27mm, IPC Medium Density)
footprint SO8_L (SOIC, 8-Leads, Body 4.9x3.9mm, Pitch 1.27mm, IPC High Density)
footprint SO8_M (SOIC, 8-Leads, Body 4.9x3.9mm, Pitch 1.27mm, IPC Low Density)
pins: 1 OUT (power), 2 SYNC, 3 INH (in), 4 COMP (out), 5 FB (in), 6 VREF (power), 7 GND (power), 8 VCC (power)

## L5970D013TR
designator U?
1A, Step-down switching regulator, 1.2 to 35V, 8-Pin SO, Tape and Reel; DatasheetVersion: Oct-2007; PackageVersion: Dec-2002; PackageReference: SO8; PackageDescription: 8-Pin Small Outline Integrated Circuit 1.27 mm Pitch; Code_JEDEC: MS-012-AA; Code_IPC: SOIC127P600-8; ComponentLink1Description: Manufacturer URL; ComponentLink1URL: http://www.st.com; ComponentLink2Description: Datasheet; ComponentLink2URL: http://www.st.com/internet/com/TECHNICAL_RESOURCES/TECHNICAL_LITERATURE/DATASHEET/CD00002173.pdf; ComponentLink3Description: Package Specification; ComponentLink3URL: http://www.st.com/internet/com/TECHNICAL_RESOURCES/TECHNICAL_LITERATURE/PACKAGE_INFORMATION/CD00004680.pdf
footprint SO8_N (SOIC, 8-Leads, Body 4.9x3.9mm, Pitch 1.27mm, IPC Medium Density)
footprint SO8_L (SOIC, 8-Leads, Body 4.9x3.9mm, Pitch 1.27mm, IPC High Density)
footprint SO8_M (SOIC, 8-Leads, Body 4.9x3.9mm, Pitch 1.27mm, IPC Low Density)
pins: 1 OUT (power), 2 SYNC, 3 INH (in), 4 COMP (out), 5 FB (in), 6 VREF (power), 7 GND (power), 8 VCC (power)

## L5972D
designator U?
2A, Switch step-down switching regulator, 1.235 to 35V, 8-Pin SO; DatasheetVersion: Oct-2007; PackageVersion: Dec-2002; PackageReference: SO8; PackageDescription: 8-Pin Small Outline Integrated Circuit 1.27 mm Pitch; Code_JEDEC: MS-012-AA; Code_IPC: SOIC127P600-8; ComponentLink1Description: Manufacturer URL; ComponentLink1URL: http://www.st.com; ComponentLink2Description: Datasheet; ComponentLink2URL: http://www.st.com/internet/com/TECHNICAL_RESOURCES/TECHNICAL_LITERATURE/DATASHEET/CD00002850.pdf; ComponentLink3Description: Package Specification; ComponentLink3URL: http://www.st.com/internet/com/TECHNICAL_RESOURCES/TECHNICAL_LITERATURE/PACKAGE_INFORMATION/CD00004680.pdf
footprint SO8_N (SOIC, 8-Leads, Body 4.9x3.9mm, Pitch 1.27mm, IPC Medium Density)
footprint SO8_L (SOIC, 8-Leads, Body 4.9x3.9mm, Pitch 1.27mm, IPC High Density)
footprint SO8_M (SOIC, 8-Leads, Body 4.9x3.9mm, Pitch 1.27mm, IPC Low Density)
pins: 1 OUT (power), 2 GND (power), 3 GND (power), 4 COMP (out), 5 FB (in), 6 GND (power), 7 GND (power), 8 VCC (power)

## L5972D013TR
designator U?
2A, Switch step-down switching regulator, 1.235 to 35V, 8-Pin SO, Tape and Reel; DatasheetVersion: Oct-2007; PackageVersion: Dec-2002; PackageReference: SO8; PackageDescription: 8-Pin Small Outline Integrated Circuit 1.27 mm Pitch; Code_JEDEC: MS-012-AA; Code_IPC: SOIC127P600-8; ComponentLink1Description: Manufacturer URL; ComponentLink1URL: http://www.st.com; ComponentLink2Description: Datasheet; ComponentLink2URL: http://www.st.com/internet/com/TECHNICAL_RESOURCES/TECHNICAL_LITERATURE/DATASHEET/CD00002850.pdf; ComponentLink3Description: Package Specification; ComponentLink3URL: http://www.st.com/internet/com/TECHNICAL_RESOURCES/TECHNICAL_LITERATURE/PACKAGE_INFORMATION/CD00004680.pdf
footprint SO8_N (SOIC, 8-Leads, Body 4.9x3.9mm, Pitch 1.27mm, IPC Medium Density)
footprint SO8_L (SOIC, 8-Leads, Body 4.9x3.9mm, Pitch 1.27mm, IPC High Density)
footprint SO8_M (SOIC, 8-Leads, Body 4.9x3.9mm, Pitch 1.27mm, IPC Low Density)
pins: 1 OUT (power), 2 GND (power), 3 GND (power), 4 COMP (out), 5 FB (in), 6 GND (power), 7 GND (power), 8 VCC (power)

## L5973AD
designator U?
2A, Switch step-down switching regulator, 1.235 to 35V, 8-Pin HSOP8; DatasheetVersion: Nov-2009; PackageVersion: 2007; PackageReference: HSO-8; PackageDescription: 8-Pin Small Outline Integrated Circuit 1.27 mm Pitch; ComponentLink1Description: Manufacturer URL; ComponentLink1URL: http://www.st.com; ComponentLink2Description: Datasheet; ComponentLink2URL: http://www.st.com/internet/com/TECHNICAL_RESOURCES/TECHNICAL_LITERATURE/DATASHEET/CD00003370.pdf
footprint HSO-8_N (SOIC, 8-Leads, Body 4.9x3.9mm, Pitch 1.27mm, Thermal Pad, IPC Medium Density)
footprint HSO-8_L (SOIC, 8-Leads, Body 4.9x3.9mm, Pitch 1.27mm, Thermal Pad, IPC High Density)
footprint HSO-8_M (SOIC, 8-Leads, Body 4.9x3.9mm, Pitch 1.27mm, Thermal Pad, IPC Low Density)
pins: 1 OUT (power), 2 SYNC, 3 INH (in), 4 COMP (out), 5 FB (in), 6 VREF (power), 7 GND (power), 8 VCC (power), 9 Thermal Pad (power)

## L5973ADTR
designator U?
2A, Switch step-down switching regulator, 1.235 to 35V, 8-Pin HSOP8, Tape and Reel; DatasheetVersion: Nov-2009; PackageVersion: 2007; PackageReference: HSO-8; PackageDescription: 8-Pin Small Outline Integrated Circuit 1.27 mm Pitch; ComponentLink1Description: Manufacturer URL; ComponentLink1URL: http://www.st.com; ComponentLink2Description: Datasheet; ComponentLink2URL: http://www.st.com/internet/com/TECHNICAL_RESOURCES/TECHNICAL_LITERATURE/DATASHEET/CD00003370.pdf
footprint HSO-8_N (SOIC, 8-Leads, Body 4.9x3.9mm, Pitch 1.27mm, Thermal Pad, IPC Medium Density)
footprint HSO-8_L (SOIC, 8-Leads, Body 4.9x3.9mm, Pitch 1.27mm, Thermal Pad, IPC High Density)
footprint HSO-8_M (SOIC, 8-Leads, Body 4.9x3.9mm, Pitch 1.27mm, Thermal Pad, IPC Low Density)
pins: 1 OUT (power), 2 SYNC, 3 INH (in), 4 COMP (out), 5 FB (in), 6 VREF (power), 7 GND (power), 8 VCC (power), 9 Thermal Pad (power)

## L5973D
designator U?
2.5A, Switch step-down switching regulator, 1.235 to 35V, 8-Pin HSOP; DatasheetVersion: Jan-2008; PackageVersion: 2007; PackageReference: HSO-8; PackageDescription: 8-Pin Small Outline Integrated Circuit 1.27 mm Pitch; ComponentLink1Description: Manufacturer URL; ComponentLink1URL: http://www.st.com; ComponentLink2Description: Datasheet; ComponentLink2URL: http://www.st.com/internet/com/TECHNICAL_RESOURCES/TECHNICAL_LITERATURE/DATASHEET/CD00002851.pdf
footprint HSO-8_N (SOIC, 8-Leads, Body 4.9x3.9mm, Pitch 1.27mm, Thermal Pad, IPC Medium Density)
footprint HSO-8_L (SOIC, 8-Leads, Body 4.9x3.9mm, Pitch 1.27mm, Thermal Pad, IPC High Density)
footprint HSO-8_M (SOIC, 8-Leads, Body 4.9x3.9mm, Pitch 1.27mm, Thermal Pad, IPC Low Density)
pins: 1 OUT (power), 2 SYNC, 3 INH (in), 4 COMP (out), 5 FB (in), 6 VREF (power), 7 GND (power), 8 VCC (power), 9 Thermal Pad (power)

## L5973D013TR
designator U?
2.5A, Switch step-down switching regulator, 1.235 to 35V, 8-Pin HSOP, Tape and Reel; DatasheetVersion: Jan-2008; PackageVersion: 2007; PackageReference: HSO-8; PackageDescription: 8-Pin Small Outline Integrated Circuit 1.27 mm Pitch; ComponentLink1Description: Manufacturer URL; ComponentLink1URL: http://www.st.com; ComponentLink2Description: Datasheet; ComponentLink2URL: http://www.st.com/internet/com/TECHNICAL_RESOURCES/TECHNICAL_LITERATURE/DATASHEET/CD00002851.pdf
footprint HSO-8_N (SOIC, 8-Leads, Body 4.9x3.9mm, Pitch 1.27mm, Thermal Pad, IPC Medium Density)
footprint HSO-8_L (SOIC, 8-Leads, Body 4.9x3.9mm, Pitch 1.27mm, Thermal Pad, IPC High Density)
footprint HSO-8_M (SOIC, 8-Leads, Body 4.9x3.9mm, Pitch 1.27mm, Thermal Pad, IPC Low Density)
pins: 1 OUT (power), 2 SYNC, 3 INH (in), 4 COMP (out), 5 FB (in), 6 VREF (power), 7 GND (power), 8 VCC (power), 9 Thermal Pad (power)

## L5980
designator U?
Up to 0.7 A step down switching regulator, 8-Pin VFQFPN, Tube; DatasheetVersion: Nov-2009; PackageVersion: 2009; PackageReference: VFQFPN8; PackageDescription: 8-Pin VFQFPN, 3 x 3 x 1.08 mm Body, 0.5 mm Pitch, Exposed Pad; ComponentLink1Description: Manufacturer URL; ComponentLink1URL: http://www.st.com; ComponentLink2Description: Datasheet; ComponentLink2URL: http://www.st.com/internet/com/TECHNICAL_RESOURCES/TECHNICAL_LITERATURE/DATASHEET/CD00148425.pdf
footprint VFQFPN8_N (SON, 8-Leads, Body 3x3mm, Pitch 0.5mm, Thermal Pad 2.35x1.6mm, IPC Medium Density)
footprint VFQFPN8_L (SON, 8-Leads, Body 3x3mm, Pitch 0.5mm, Thermal Pad 2.35x1.6mm, IPC High Density)
footprint VFQFPN8_M (SON, 8-Leads, Body 3x3mm, Pitch 0.5mm, Thermal Pad 2.35x1.6mm, IPC Low Density)
pins: 1 OUT (power), 2 SYNCH, 3 INH (in), 4 COMP (out), 5 FB (in), 6 FSW, 7 GND (power), 8 VCC (power), 9 Thermal Pad (power)

## L5980TR
designator U?
Up to 0.7 A step down switching regulator, 8-Pin VFQFPN, Tape and Reel; DatasheetVersion: Nov-2009; PackageVersion: 2009; PackageReference: VFQFPN8; PackageDescription: 8-Pin VFQFPN, 3 x 3 x 1.08 mm Body, 0.5 mm Pitch, Exposed Pad; ComponentLink1Description: Manufacturer URL; ComponentLink1URL: http://www.st.com; ComponentLink2Description: Datasheet; ComponentLink2URL: http://www.st.com/internet/com/TECHNICAL_RESOURCES/TECHNICAL_LITERATURE/DATASHEET/CD00148425.pdf
footprint VFQFPN8_N (SON, 8-Leads, Body 3x3mm, Pitch 0.5mm, Thermal Pad 2.35x1.6mm, IPC Medium Density)
footprint VFQFPN8_L (SON, 8-Leads, Body 3x3mm, Pitch 0.5mm, Thermal Pad 2.35x1.6mm, IPC High Density)
footprint VFQFPN8_M (SON, 8-Leads, Body 3x3mm, Pitch 0.5mm, Thermal Pad 2.35x1.6mm, IPC Low Density)
pins: 1 OUT (power), 2 SYNCH, 3 INH (in), 4 COMP (out), 5 FB (in), 6 FSW, 7 GND (power), 8 VCC (power), 9 Thermal Pad (power)

## L5981
designator U?
Up to 1 A step down switching regulator, 8-Pin VFQFPN, Tube; DatasheetVersion: Jun-2009; PackageVersion: 2009; PackageReference: VFQFPN8; PackageDescription: 8-Pin VFQFPN, 3 x 3 x 1.08 mm Body, 0.5 mm Pitch, Exposed Pad; ComponentLink1Description: Manufacturer URL; ComponentLink1URL: http://www.st.com; ComponentLink2Description: Datasheet; ComponentLink2URL: http://www.st.com/internet/com/TECHNICAL_RESOURCES/TECHNICAL_LITERATURE/DATASHEET/CD00148431.pdf
footprint VFQFPN8_N (SON, 8-Leads, Body 3x3mm, Pitch 0.5mm, Thermal Pad 2.35x1.6mm, IPC Medium Density)
footprint VFQFPN8_L (SON, 8-Leads, Body 3x3mm, Pitch 0.5mm, Thermal Pad 2.35x1.6mm, IPC High Density)
footprint VFQFPN8_M (SON, 8-Leads, Body 3x3mm, Pitch 0.5mm, Thermal Pad 2.35x1.6mm, IPC Low Density)
pins: 1 OUT (power), 2 SYNCH, 3 INH (in), 4 COMP (out), 5 FB (in), 6 FSW, 7 GND (power), 8 VCC (power), 9 Thermal Pad (power)

## L5981TR
designator U?
Up to 1 A step down switching regulator, 8-Pin VFQFPN, Tape and Reel; DatasheetVersion: Jun-2009; PackageVersion: 2009; PackageReference: VFQFPN8; PackageDescription: 8-Pin VFQFPN, 3 x 3 x 1.08 mm Body, 0.5 mm Pitch, Exposed Pad; ComponentLink1Description: Manufacturer URL; ComponentLink1URL: http://www.st.com; ComponentLink2Description: Datasheet; ComponentLink2URL: http://www.st.com/internet/com/TECHNICAL_RESOURCES/TECHNICAL_LITERATURE/DATASHEET/CD00148431.pdf
footprint VFQFPN8_N (SON, 8-Leads, Body 3x3mm, Pitch 0.5mm, Thermal Pad 2.35x1.6mm, IPC Medium Density)
footprint VFQFPN8_L (SON, 8-Leads, Body 3x3mm, Pitch 0.5mm, Thermal Pad 2.35x1.6mm, IPC High Density)
footprint VFQFPN8_M (SON, 8-Leads, Body 3x3mm, Pitch 0.5mm, Thermal Pad 2.35x1.6mm, IPC Low Density)
pins: 1 OUT (power), 2 SYNCH, 3 INH (in), 4 COMP (out), 5 FB (in), 6 FSW, 7 GND (power), 8 VCC (power), 9 Thermal Pad (power)

## L5983
designator U?
Up to 1.5 A step down switching regulator, 8-Pin VFQFPN, Tube; DatasheetVersion: Nov-2010; PackageVersion: 2009; PackageReference: VFQFPN8; PackageDescription: 8-Pin VFQFPN, 3 x 3 x 1.08 mm Body, 0.5 mm Pitch, Exposed Pad; ComponentLink1Description: Manufacturer URL; ComponentLink1URL: http://www.st.com; ComponentLink2Description: Datasheet; ComponentLink2URL: http://www.st.com/internet/com/TECHNICAL_RESOURCES/TECHNICAL_LITERATURE/DATASHEET/CD00148433.pdf
footprint VFQFPN8_N (SON, 8-Leads, Body 3x3mm, Pitch 0.5mm, Thermal Pad 2.35x1.6mm, IPC Medium Density)
footprint VFQFPN8_L (SON, 8-Leads, Body 3x3mm, Pitch 0.5mm, Thermal Pad 2.35x1.6mm, IPC High Density)
footprint VFQFPN8_M (SON, 8-Leads, Body 3x3mm, Pitch 0.5mm, Thermal Pad 2.35x1.6mm, IPC Low Density)
pins: 1 OUT (power), 2 SYNCH, 3 INH (in), 4 COMP (out), 5 FB (in), 6 FSW, 7 GND (power), 8 VCC (power), 9 Thermal Pad (power)

## L5983TR
designator U?
Up to 1.5 A step down switching regulator, 8-Pin VFQFPN, Tape and Reel; DatasheetVersion: Nov-2010; PackageVersion: 2009; PackageReference: VFQFPN8; PackageDescription: 8-Pin VFQFPN, 3 x 3 x 1.08 mm Body, 0.5 mm Pitch, Exposed Pad; ComponentLink1Description: Manufacturer URL; ComponentLink1URL: http://www.st.com; ComponentLink2Description: Datasheet; ComponentLink2URL: http://www.st.com/internet/com/TECHNICAL_RESOURCES/TECHNICAL_LITERATURE/DATASHEET/CD00148433.pdf
footprint VFQFPN8_N (SON, 8-Leads, Body 3x3mm, Pitch 0.5mm, Thermal Pad 2.35x1.6mm, IPC Medium Density)
footprint VFQFPN8_L (SON, 8-Leads, Body 3x3mm, Pitch 0.5mm, Thermal Pad 2.35x1.6mm, IPC High Density)
footprint VFQFPN8_M (SON, 8-Leads, Body 3x3mm, Pitch 0.5mm, Thermal Pad 2.35x1.6mm, IPC Low Density)
pins: 1 OUT (power), 2 SYNCH, 3 INH (in), 4 COMP (out), 5 FB (in), 6 FSW, 7 GND (power), 8 VCC (power), 9 Thermal Pad (power)

## L5985
designator U?
Up to 2 A step down switching regulator, 8-Pin VFQFPN, Tube; DatasheetVersion: Jun-2009; PackageVersion: 2009; PackageReference: VFQFPN8; PackageDescription: 8-Pin VFQFPN, 3 x 3 x 1.08 mm Body, 0.5 mm Pitch, Exposed Pad; ComponentLink1Description: Manufacturer URL; ComponentLink1URL: http://www.st.com; ComponentLink2Description: Datasheet; ComponentLink2URL: http://www.st.com/internet/com/TECHNICAL_RESOURCES/TECHNICAL_LITERATURE/DATASHEET/CD00148435.pdf
footprint VFQFPN8_N (SON, 8-Leads, Body 3x3mm, Pitch 0.5mm, Thermal Pad 2.35x1.6mm, IPC Medium Density)
footprint VFQFPN8_L (SON, 8-Leads, Body 3x3mm, Pitch 0.5mm, Thermal Pad 2.35x1.6mm, IPC High Density)
footprint VFQFPN8_M (SON, 8-Leads, Body 3x3mm, Pitch 0.5mm, Thermal Pad 2.35x1.6mm, IPC Low Density)
pins: 1 OUT (power), 2 SYNCH, 3 INH (in), 4 COMP (out), 5 FB (in), 6 FSW, 7 GND (power), 8 VCC (power), 9 Thermal Pad (power)